# Altium schematic symbol library WR-TBL_Wire Protector.SchLib: 141 symbols (part 2 of 3)
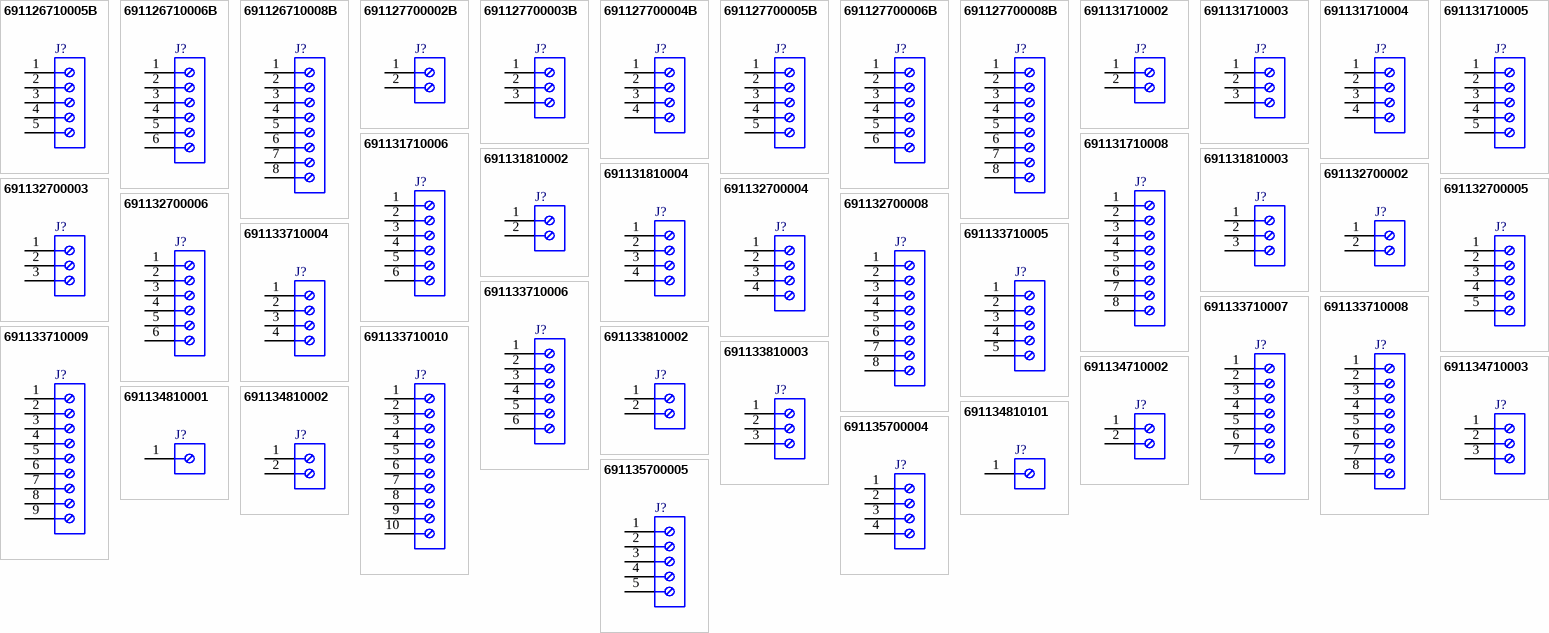
[diagram p4: symbols 691126710005B to 691135700005]

## 691132700008
designator J?  (value not drawn)
WR-TBL Series 1327 Vertical Entry, THT, pitch 5mm, 08p; Manufacturer: Wurth Elektronik; Modularity: No; Rated Current: 16A; Wire Section: 30 to 12 (AWG) 0.05 to 3.31 (mm^2); Working Voltage: 300V (AC); Manufacturer Part Number: 691132700008; Product Series: WR-TBL; ComponentLink1Description: Website Link; ComponentLink1URL: https://www.we-online.com; ComponentLink2Description: Datasheet Link; ComponentLink2URL: https://www.we-online.com/components/products/datasheet/691132700008; Mount: Through Hole; Operating Temperature Min: -30degC; Operating Temperature Max: 120degC; Packaging: Box; Application: Pressure Clamp Divisible; Number of Pins: 8; Number of Rows: 1; Orientation: Vertical; Lead Pitch: 5mm
footprint 691132700008
pins: 1, 2, 3, 4, 5, 6, 7, 8

## 691133710004
designator J?  (value not drawn)
WR-TBL Series 1337 Horizontal Cable Entry, THT, pitch 5mm, 04p; Manufacturer: Wurth Elektronik; Modularity: No; Rated Current: 18A; Wire Section: 30 to 12 (AWG) 0.2 to 2.5 (mm^2); Working Voltage: 300V (AC); Manufacturer Part Number: 691133710004; Product Series: WR-TBL; ComponentLink1Description: Website Link; ComponentLink1URL: https://www.we-online.com; ComponentLink2Description: Datasheet Link; ComponentLink2URL: https://www.we-online.com/components/products/datasheet/691133710004; Mount: Through Hole; Operating Temperature Min: -30degC; Operating Temperature Max: 120degC; Packaging: Box; Application: Pressure Clamp; Number of Pins: 4; Number of Rows: 1; Orientation: Horizontal; Lead Pitch: 5mm
footprint 691133710004
pins: 1, 2, 3, 4

## 691133710005
designator J?  (value not drawn)
WR-TBL Series 1337 Horizontal Cable Entry, THT, pitch 5mm, 05p; Manufacturer: Wurth Elektronik; Modularity: No; Rated Current: 18A; Wire Section: 30 to 12 (AWG) 0.2 to 2.5 (mm^2); Working Voltage: 300V (AC); Manufacturer Part Number: 691133710005; Product Series: WR-TBL; ComponentLink1Description: Website Link; ComponentLink1URL: https://www.we-online.com; ComponentLink2Description: Datasheet Link; ComponentLink2URL: https://www.we-online.com/components/products/datasheet/691133710005; Mount: Through Hole; Operating Temperature Min: -30degC; Operating Temperature Max: 120degC; Packaging: Box; Application: Pressure Clamp; Number of Pins: 5; Number of Rows: 1; Orientation: Horizontal; Lead Pitch: 5mm
footprint 691133710005
pins: 1, 2, 3, 4, 5

## 691133710006
designator J?  (value not drawn)
WR-TBL Series 1337 Horizontal Cable Entry, THT, pitch 5mm, 06p; Manufacturer: Wurth Elektronik; Modularity: No; Rated Current: 18A; Wire Section: 30 to 12 (AWG) 0.2 to 2.5 (mm^2); Working Voltage: 300V (AC); Manufacturer Part Number: 691133710006; Product Series: WR-TBL; ComponentLink1Description: Website Link; ComponentLink1URL: https://www.we-online.com; ComponentLink2Description: Datasheet Link; ComponentLink2URL: https://www.we-online.com/components/products/datasheet/691133710006; Mount: Through Hole; Operating Temperature Min: -30degC; Operating Temperature Max: 120degC; Packaging: Box; Application: Pressure Clamp; Number of Pins: 6; Number of Rows: 1; Orientation: Horizontal; Lead Pitch: 5mm
footprint 691133710006
pins: 1, 2, 3, 4, 5, 6

## 691133710007
designator J?  (value not drawn)
WR-TBL Series 1337 Horizontal Cable Entry, THT, pitch 5mm, 07p; Manufacturer: Wurth Elektronik; Modularity: No; Rated Current: 18A; Wire Section: 30 to 12 (AWG) 0.2 to 2.5 (mm^2); Working Voltage: 300V (AC); Manufacturer Part Number: 691133710007; Product Series: WR-TBL; ComponentLink1Description: Website Link; ComponentLink1URL: https://www.we-online.com; ComponentLink2Description: Datasheet Link; ComponentLink2URL: https://www.we-online.com/components/products/datasheet/691133710007; Mount: Through Hole; Operating Temperature Min: -30degC; Operating Temperature Max: 120degC; Packaging: Box; Application: Pressure Clamp; Number of Pins: 7; Number of Rows: 1; Orientation: Horizontal; Lead Pitch: 5mm
footprint 691133710007
pins: 1, 2, 3, 4, 5, 6, 7

## 691133710008
designator J?  (value not drawn)
WR-TBL Series 1337 Horizontal Cable Entry, THT, pitch 5mm, 08p; Manufacturer: Wurth Elektronik; Modularity: No; Rated Current: 18A; Wire Section: 30 to 12 (AWG) 0.2 to 2.5 (mm^2); Working Voltage: 300V (AC); Manufacturer Part Number: 691133710008; Product Series: WR-TBL; ComponentLink1Description: Website Link; ComponentLink1URL: https://www.we-online.com; ComponentLink2Description: Datasheet Link; ComponentLink2URL: https://www.we-online.com/components/products/datasheet/691133710008; Mount: Through Hole; Operating Temperature Min: -30degC; Operating Temperature Max: 120degC; Packaging: Box; Application: Pressure Clamp; Number of Pins: 8; Number of Rows: 1; Orientation: Horizontal; Lead Pitch: 5mm
footprint 691133710008
pins: 1, 2, 3, 4, 5, 6, 7, 8

## 691133710009
designator J?  (value not drawn)
WR-TBL Series 1337 Horizontal Cable Entry, THT, pitch 5mm, 09p; Manufacturer: Wurth Elektronik; Modularity: No; Rated Current: 18A; Wire Section: 30 to 12 (AWG) 0.2 to 2.5 (mm^2); Working Voltage: 300V (AC); Manufacturer Part Number: 691133710009; Product Series: WR-TBL; ComponentLink1Description: Website Link; ComponentLink1URL: https://www.we-online.com; ComponentLink2Description: Datasheet Link; ComponentLink2URL: https://www.we-online.com/components/products/datasheet/691133710009; Mount: Through Hole; Operating Temperature Min: -30degC; Operating Temperature Max: 120degC; Packaging: Box; Application: Pressure Clamp; Number of Pins: 9; Number of Rows: 1; Orientation: Horizontal; Lead Pitch: 5mm
footprint 691133710009
pins: 1, 2, 3, 4, 5, 6, 7, 8, 9

## 691133710010
designator J?  (value not drawn)
WR-TBL Series 1337 Horizontal Cable Entry, THT, pitch 5mm, 10p; Manufacturer: Wurth Elektronik; Modularity: No; Rated Current: 18A; Wire Section: 30 to 12 (AWG) 0.2 to 2.5 (mm^2); Working Voltage: 300V (AC); Manufacturer Part Number: 691133710010; Product Series: WR-TBL; ComponentLink1Description: Website Link; ComponentLink1URL: https://www.we-online.com; ComponentLink2Description: Datasheet Link; ComponentLink2URL: https://www.we-online.com/components/products/datasheet/691133710010; Mount: Through Hole; Operating Temperature Min: -30degC; Operating Temperature Max: 120degC; Packaging: Box; Application: Pressure Clamp; Number of Pins: 10; Number of Rows: 1; Orientation: Horizontal; Lead Pitch: 5mm
footprint 691133710010
pins: 1, 2, 3, 4, 5, 6, 7, 8, 9, 10

## 691133810002
designator J?  (value not drawn)
WR-TBL Series 1338 Horizontal Cable Entry, THT, pitch 10mm, 02p; Manufacturer: Wurth Elektronik; Modularity: No; Rated Current: 18A; Wire Section: 30 to 12 (AWG) 0.2 to 2.5 (mm^2); Working Voltage: 300V (AC); Manufacturer Part Number: 691133810002; Product Series: WR-TBL; ComponentLink1Description: Website Link; ComponentLink1URL: https://www.we-online.com; ComponentLink2Description: Datasheet Link; ComponentLink2URL: https://www.we-online.com/components/products/datasheet/691133810002; Mount: Through Hole; Operating Temperature Min: -30degC; Operating Temperature Max: 120degC; Packaging: Box; Application: Pressure Clamp; Number of Pins: 2; Number of Rows: 1; Orientation: Horizontal; Lead Pitch: 10mm
footprint 691133810002
pins: 1, 2

## 691133810003
designator J?  (value not drawn)
WR-TBL Series 1338 Horizontal Cable Entry, THT, pitch 10mm, 03p; Manufacturer: Wurth Elektronik; Modularity: No; Rated Current: 18A; Wire Section: 30 to 12 (AWG) 0.2 to 2.5 (mm^2); Working Voltage: 300V (AC); Manufacturer Part Number: 691133810003; Product Series: WR-TBL; ComponentLink1Description: Website Link; ComponentLink1URL: https://www.we-online.com; ComponentLink2Description: Datasheet Link; ComponentLink2URL: https://www.we-online.com/components/products/datasheet/691133810003; Mount: Through Hole; Operating Temperature Min: -30degC; Operating Temperature Max: 120degC; Packaging: Box; Application: Pressure Clamp; Number of Pins: 3; Number of Rows: 1; Orientation: Horizontal; Lead Pitch: 10mm
footprint 691133810003
pins: 1, 2, 3

## 691134710002
designator J?  (value not drawn)
WR-TBL Series 1347 Horizontal Cable Entry, THT, pitch 5mm, 02p; Manufacturer: Wurth Elektronik; Modularity: Yes; Rated Current: 16A; Working Voltage: 300V (AC); Manufacturer Part Number: 691134710002; Product Series: WR-TBL; ComponentLink1Description: Website Link; ComponentLink1URL: https://www.we-online.com; ComponentLink2Description: Datasheet Link; ComponentLink2URL: https://www.we-online.com/components/products/datasheet/691134710002; Mount: Through Hole; Operating Temperature Min: -30degC; Operating Temperature Max: 120degC; Packaging: Box; Application: Pressure Clamp; Number of Pins: 2; Number of Rows: 1; Orientation: Horizontal; Lead Pitch: 5mm
footprint 691134710002
pins: 1, 2

## 691134710003
designator J?  (value not drawn)
WR-TBL Series 1347 Horizontal Cable Entry, THT, pitch 5mm, 03p; Manufacturer: Wurth Elektronik; Modularity: Yes; Rated Current: 16A; Working Voltage: 300V (AC); Manufacturer Part Number: 691134710003; Product Series: WR-TBL; ComponentLink1Description: Website Link; ComponentLink1URL: https://www.we-online.com; ComponentLink2Description: Datasheet Link; ComponentLink2URL: https://www.we-online.com/components/products/datasheet/691134710003; Mount: Through Hole; Operating Temperature Min: -30degC; Operating Temperature Max: 120degC; Packaging: Box; Application: Pressure Clamp; Number of Pins: 3; Number of Rows: 1; Orientation: Horizontal; Lead Pitch: 5mm
footprint 691134710003
pins: 1, 2, 3

## 691134810001
designator J?  (value not drawn)
WR-TBL Series 1348 Horizontal Cable Entry, THT, pitch 10mm, 01p; Manufacturer: Wurth Elektronik; Modularity: Yes; Rated Current: 16A; Working Voltage: 300V (AC); Manufacturer Part Number: 691134810001; Product Series: WR-TBL; ComponentLink1Description: Website Link; ComponentLink1URL: https://www.we-online.com; ComponentLink2Description: Datasheet Link; ComponentLink2URL: https://www.we-online.com/components/products/datasheet/691134810001; Mount: Through Hole; Operating Temperature Min: -30degC; Operating Temperature Max: 120degC; Packaging: Box; Application: Pressure Clamp; Number of Pins: 1; Number of Rows: 1; Orientation: Horizontal; Lead Pitch: 10mm
footprint 691134810001
pins: 1

## 691134810002
designator J?  (value not drawn)
WR-TBL Series 1348 Horizontal Cable Entry, THT, pitch 10mm, 02p; Manufacturer: Wurth Elektronik; Modularity: Yes; Rated Current: 16A; Working Voltage: 300V (AC); Manufacturer Part Number: 691134810002; Product Series: WR-TBL; ComponentLink1Description: Website Link; ComponentLink1URL: https://www.we-online.com; ComponentLink2Description: Datasheet Link; ComponentLink2URL: https://www.we-online.com/components/products/datasheet/691134810002; Mount: Through Hole; Operating Temperature Min: -30degC; Operating Temperature Max: 120degC; Packaging: Box; Application: Pressure Clamp; Number of Pins: 2; Number of Rows: 1; Orientation: Horizontal; Lead Pitch: 10mm
footprint 691134810002
pins: 1, 2

## 691134810101
designator J?  (value not drawn)
WR-TBL Series 1348 Horizontal Cable Entry, THT, pitch 10mm, 01p; Manufacturer: Wurth Elektronik; Modularity: Yes; Rated Current: 16A; Working Voltage: 300V (AC); Manufacturer Part Number: 691134810101; Product Series: WR-TBL; ComponentLink1Description: Website Link; ComponentLink1URL: https://www.we-online.com; ComponentLink2Description: Datasheet Link; ComponentLink2URL: https://www.we-online.com/components/products/datasheet/691134810101; Mount: Through Hole; Operating Temperature Min: -30degC; Operating Temperature Max: 120degC; Packaging: Box; Application: Pressure Clamp; Number of Pins: 1; Number of Rows: 1; Orientation: Horizontal; Lead Pitch: 10mm
footprint 691134810101
pins: 1

## 691135700004
designator J?  (value not drawn)
WR-TBL Series 1357 Vertical Cable Entry, THT, pitch 5mm, 04p; Manufacturer: Wurth Elektronik; Modularity: No; Rated Current: 14A; Working Voltage: 300V (AC); Manufacturer Part Number: 691135700004; Product Series: WR-TBL; ComponentLink1Description: Website Link; ComponentLink1URL: https://www.we-online.com; ComponentLink2Description: Datasheet Link; ComponentLink2URL: https://www.we-online.com/components/products/datasheet/691135700004; Mount: Through Hole; Operating Temperature Min: -30degC; Operating Temperature Max: 120degC; Packaging: Box; Application: Pressure Clamp; Number of Pins: 4; Number of Rows: 1; Orientation: Vertical; Lead Pitch: 5mm
footprint 691135700004
pins: 1, 2, 3, 4

## 691135700005
designator J?  (value not drawn)
WR-TBL Series 1357 Vertical Cable Entry, THT, pitch 5mm, 05p; Manufacturer: Wurth Elektronik; Modularity: No; Rated Current: 14A; Working Voltage: 300V (AC); Manufacturer Part Number: 691135700005; Product Series: WR-TBL; ComponentLink1Description: Website Link; ComponentLink1URL: https://www.we-online.com; ComponentLink2Description: Datasheet Link; ComponentLink2URL: https://www.we-online.com/components/products/datasheet/691135700005; Mount: Through Hole; Operating Temperature Min: -30degC; Operating Temperature Max: 120degC; Packaging: Box; Application: Pressure Clamp; Number of Pins: 5; Number of Rows: 1; Orientation: Vertical; Lead Pitch: 5mm
footprint 691135700005
pins: 1, 2, 3, 4, 5

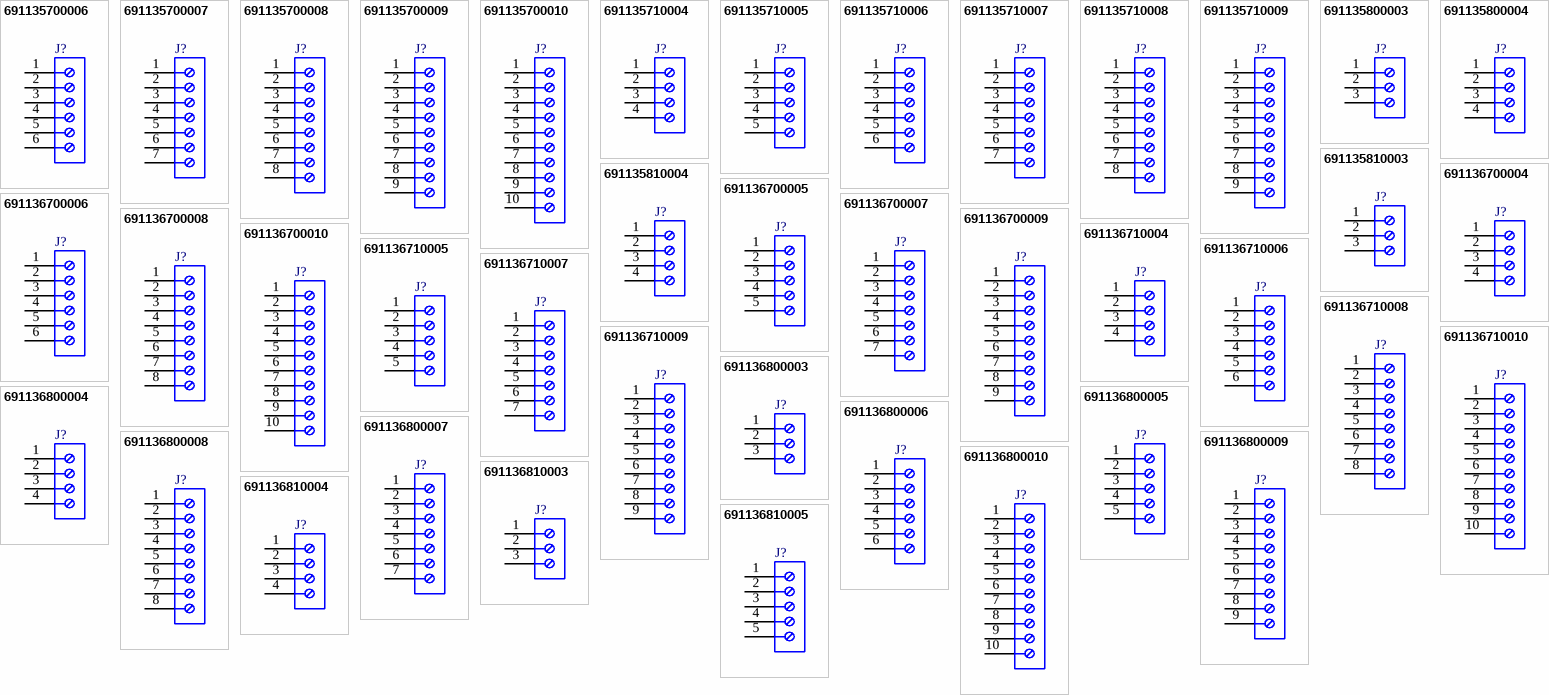
[diagram p2: symbols 691135700006 to 691136810005]

## 691135700006
designator J?  (value not drawn)
WR-TBL Series 1357 Vertical Cable Entry, THT, pitch 5mm, 06p; Manufacturer: Wurth Elektronik; Modularity: No; Rated Current: 14A; Working Voltage: 300V (AC); Manufacturer Part Number: 691135700006; Product Series: WR-TBL; ComponentLink1Description: Website Link; ComponentLink1URL: https://www.we-online.com; ComponentLink2Description: Datasheet Link; ComponentLink2URL: https://www.we-online.com/components/products/datasheet/691135700006; Mount: Through Hole; Operating Temperature Min: -30degC; Operating Temperature Max: 120degC; Packaging: Box; Application: Pressure Clamp; Number of Pins: 6; Number of Rows: 1; Orientation: Vertical; Lead Pitch: 5mm
footprint 691135700006
pins: 1, 2, 3, 4, 5, 6

## 691135700007
designator J?  (value not drawn)
WR-TBL Series 1357 Vertical Cable Entry, THT, pitch 5mm, 07p; Manufacturer: Wurth Elektronik; Modularity: No; Rated Current: 14A; Working Voltage: 300V (AC); Manufacturer Part Number: 691135700007; Product Series: WR-TBL; ComponentLink1Description: Website Link; ComponentLink1URL: https://www.we-online.com; ComponentLink2Description: Datasheet Link; ComponentLink2URL: https://www.we-online.com/components/products/datasheet/691135700007; Mount: Through Hole; Operating Temperature Min: -30degC; Operating Temperature Max: 120degC; Packaging: Box; Application: Pressure Clamp; Number of Pins: 7; Number of Rows: 1; Orientation: Vertical; Lead Pitch: 5mm
footprint 691135700007
pins: 1, 2, 3, 4, 5, 6, 7

## 691135700008
designator J?  (value not drawn)
WR-TBL Series 1357 Vertical Cable Entry, THT, pitch 5mm, 08p; Manufacturer: Wurth Elektronik; Modularity: No; Rated Current: 14A; Working Voltage: 300V (AC); Manufacturer Part Number: 691135700008; Product Series: WR-TBL; ComponentLink1Description: Website Link; ComponentLink1URL: https://www.we-online.com; ComponentLink2Description: Datasheet Link; ComponentLink2URL: https://www.we-online.com/components/products/datasheet/691135700008; Mount: Through Hole; Operating Temperature Min: -30degC; Operating Temperature Max: 120degC; Packaging: Box; Application: Pressure Clamp; Number of Pins: 8; Number of Rows: 1; Orientation: Vertical; Lead Pitch: 5mm
footprint 691135700008
pins: 1, 2, 3, 4, 5, 6, 7, 8

## 691135700009
designator J?  (value not drawn)
WR-TBL Series 1357 Vertical Cable Entry, THT, pitch 5mm, 09p; Manufacturer: Wurth Elektronik; Modularity: No; Rated Current: 14A; Working Voltage: 300V (AC); Manufacturer Part Number: 691135700009; Product Series: WR-TBL; ComponentLink1Description: Website Link; ComponentLink1URL: https://www.we-online.com; ComponentLink2Description: Datasheet Link; ComponentLink2URL: https://www.we-online.com/components/products/datasheet/691135700009; Mount: Through Hole; Operating Temperature Min: -30degC; Operating Temperature Max: 120degC; Packaging: Box; Application: Pressure Clamp; Number of Pins: 9; Number of Rows: 1; Orientation: Vertical; Lead Pitch: 5mm
footprint 691135700009
pins: 1, 2, 3, 4, 5, 6, 7, 8, 9

## 691135700010
designator J?  (value not drawn)
WR-TBL Series 1357 Vertical Cable Entry, THT, pitch 5mm, 10p; Manufacturer: Wurth Elektronik; Modularity: No; Rated Current: 14A; Working Voltage: 300V (AC); Manufacturer Part Number: 691135700010; Product Series: WR-TBL; ComponentLink1Description: Website Link; ComponentLink1URL: https://www.we-online.com; ComponentLink2Description: Datasheet Link; ComponentLink2URL: https://www.we-online.com/components/products/datasheet/691135700010; Mount: Through Hole; Operating Temperature Min: -30degC; Operating Temperature Max: 120degC; Packaging: Box; Application: Pressure Clamp; Number of Pins: 10; Number of Rows: 1; Orientation: Vertical; Lead Pitch: 5mm
footprint 691135700010
pins: 1, 2, 3, 4, 5, 6, 7, 8, 9, 10

## 691135710004
designator J?  (value not drawn)
WR-TBL Series 1357 Horizontal Cable Entry, THT, pitch 5mm, 04p; Manufacturer: Wurth Elektronik; Modularity: No; Rated Current: 14A; Working Voltage: 300V (AC); Manufacturer Part Number: 691135710004; Product Series: WR-TBL; ComponentLink1Description: Website Link; ComponentLink1URL: https://www.we-online.com; ComponentLink2Description: Datasheet Link; ComponentLink2URL: https://www.we-online.com/components/products/datasheet/691135710004; Mount: Through Hole; Operating Temperature Min: -30degC; Operating Temperature Max: 120degC; Packaging: Box; Application: Pressure Clamp; Number of Pins: 4; Number of Rows: 1; Orientation: Horizontal; Lead Pitch: 5mm
footprint 691135710004
pins: 1, 2, 3, 4

## 691135710005
designator J?  (value not drawn)
WR-TBL Series 1357 Horizontal Cable Entry, THT, pitch 5mm, 05p; Manufacturer: Wurth Elektronik; Modularity: No; Rated Current: 14A; Working Voltage: 300V (AC); Manufacturer Part Number: 691135710005; Product Series: WR-TBL; ComponentLink1Description: Website Link; ComponentLink1URL: https://www.we-online.com; ComponentLink2Description: Datasheet Link; ComponentLink2URL: https://www.we-online.com/components/products/datasheet/691135710005; Mount: Through Hole; Operating Temperature Min: -30degC; Operating Temperature Max: 120degC; Packaging: Box; Application: Pressure Clamp; Number of Pins: 5; Number of Rows: 1; Orientation: Horizontal; Lead Pitch: 5mm
footprint 691135710005
pins: 1, 2, 3, 4, 5

## 691135710006
designator J?  (value not drawn)
WR-TBL Series 1357 Horizontal Cable Entry, THT, pitch 5mm, 06p; Manufacturer: Wurth Elektronik; Modularity: No; Rated Current: 14A; Working Voltage: 300V (AC); Manufacturer Part Number: 691135710006; Product Series: WR-TBL; ComponentLink1Description: Website Link; ComponentLink1URL: https://www.we-online.com; ComponentLink2Description: Datasheet Link; ComponentLink2URL: https://www.we-online.com/components/products/datasheet/691135710006; Mount: Through Hole; Operating Temperature Min: -30degC; Operating Temperature Max: 120degC; Packaging: Box; Application: Pressure Clamp; Number of Pins: 6; Number of Rows: 1; Orientation: Horizontal; Lead Pitch: 5mm
footprint 691135710006
pins: 1, 2, 3, 4, 5, 6

## 691135710007
designator J?  (value not drawn)
WR-TBL Series 1357 Horizontal Cable Entry, THT, pitch 5mm, 07p; Manufacturer: Wurth Elektronik; Modularity: No; Rated Current: 14A; Working Voltage: 300V (AC); Manufacturer Part Number: 691135710007; Product Series: WR-TBL; ComponentLink1Description: Website Link; ComponentLink1URL: https://www.we-online.com; ComponentLink2Description: Datasheet Link; ComponentLink2URL: https://www.we-online.com/components/products/datasheet/691135710007; Mount: Through Hole; Operating Temperature Min: -30degC; Operating Temperature Max: 120degC; Packaging: Box; Application: Pressure Clamp; Number of Pins: 7; Number of Rows: 1; Orientation: Horizontal; Lead Pitch: 5mm
footprint 691135710007
pins: 1, 2, 3, 4, 5, 6, 7

## 691135710008
designator J?  (value not drawn)
WR-TBL Series 1357 Horizontal Cable Entry, THT, pitch 5mm, 08p; Manufacturer: Wurth Elektronik; Modularity: No; Rated Current: 14A; Working Voltage: 300V (AC); Manufacturer Part Number: 691135710008; Product Series: WR-TBL; ComponentLink1Description: Website Link; ComponentLink1URL: https://www.we-online.com; ComponentLink2Description: Datasheet Link; ComponentLink2URL: https://www.we-online.com/components/products/datasheet/691135710008; Mount: Through Hole; Operating Temperature Min: -30degC; Operating Temperature Max: 120degC; Packaging: Box; Application: Pressure Clamp; Number of Pins: 8; Number of Rows: 1; Orientation: Horizontal; Lead Pitch: 5mm
footprint 691135710008
pins: 1, 2, 3, 4, 5, 6, 7, 8

## 691135710009
designator J?  (value not drawn)
WR-TBL Series 1357 Horizontal Cable Entry, THT, pitch 5mm, 09p; Manufacturer: Wurth Elektronik; Modularity: No; Rated Current: 14A; Working Voltage: 300V (AC); Manufacturer Part Number: 691135710009; Product Series: WR-TBL; ComponentLink1Description: Website Link; ComponentLink1URL: https://www.we-online.com; ComponentLink2Description: Datasheet Link; ComponentLink2URL: https://www.we-online.com/components/products/datasheet/691135710009; Mount: Through Hole; Operating Temperature Min: -30degC; Operating Temperature Max: 120degC; Packaging: Box; Application: Pressure Clamp; Number of Pins: 9; Number of Rows: 1; Orientation: Horizontal; Lead Pitch: 5mm
footprint 691135710009
pins: 1, 2, 3, 4, 5, 6, 7, 8, 9

## 691135800003
designator J?  (value not drawn)
WR-TBL Series 1358 Vertical Entry Glow Wire, THT, pitch 10mm, 03p; Manufacturer: Wurth Elektronik; Modularity: No; Rated Current: 14A; Working Voltage: 300V (AC); Manufacturer Part Number: 691135800003; Product Series: WR-TBL; ComponentLink1Description: Website Link; ComponentLink1URL: https://www.we-online.com; ComponentLink2Description: Datasheet Link; ComponentLink2URL: https://www.we-online.com/components/products/datasheet/691135800003; Mount: Through Hole; Operating Temperature Min: -30degC; Operating Temperature Max: 120degC; Packaging: Box; Application: Pressure Clamp; Number of Pins: 3; Number of Rows: 1; Orientation: Vertical; Lead Pitch: 10mm
footprint 691135800003
pins: 1, 2, 3

## 691135800004
designator J?  (value not drawn)
WR-TBL Series 1358 Vertical Entry Glow Wire, THT, pitch 10mm, 04p; Manufacturer: Wurth Elektronik; Modularity: No; Rated Current: 14A; Working Voltage: 300V (AC); Manufacturer Part Number: 691135800004; Product Series: WR-TBL; ComponentLink1Description: Website Link; ComponentLink1URL: https://www.we-online.com; ComponentLink2Description: Datasheet Link; ComponentLink2URL: https://www.we-online.com/components/products/datasheet/691135800004; Mount: Through Hole; Operating Temperature Min: -30degC; Operating Temperature Max: 120degC; Packaging: Box; Application: Pressure Clamp; Number of Pins: 4; Number of Rows: 1; Orientation: Vertical; Lead Pitch: 10mm
footprint 691135800004
pins: 1, 2, 3, 4

## 691135810003
designator J?  (value not drawn)
WR-TBL Series 1358 Horizontal Entry Glow Wire, THT, pitch 10mm, 03p; Manufacturer: Wurth Elektronik; Modularity: No; Rated Current: 14A; Working Voltage: 300V (AC); Manufacturer Part Number: 691135810003; Product Series: WR-TBL; ComponentLink1Description: Website Link; ComponentLink1URL: https://www.we-online.com; ComponentLink2Description: Datasheet Link; ComponentLink2URL: https://www.we-online.com/components/products/datasheet/691135810003; Mount: Through Hole; Operating Temperature Min: -30degC; Operating Temperature Max: 120degC; Packaging: Box; Application: Pressure Clamp; Number of Pins: 3; Number of Rows: 1; Orientation: Horizontal; Lead Pitch: 10mm
footprint 691135810003
pins: 1, 2, 3

## 691135810004
designator J?  (value not drawn)
WR-TBL Series 1358 Horizontal Entry Glow Wire, THT, pitch 10mm, 04p; Manufacturer: Wurth Elektronik; Modularity: No; Rated Current: 14A; Working Voltage: 300V (AC); Manufacturer Part Number: 691135810004; Product Series: WR-TBL; ComponentLink1Description: Website Link; ComponentLink1URL: https://www.we-online.com; ComponentLink2Description: Datasheet Link; ComponentLink2URL: https://www.we-online.com/components/products/datasheet/691135810004; Mount: Through Hole; Operating Temperature Min: -30degC; Operating Temperature Max: 120degC; Packaging: Box; Application: Pressure Clamp; Number of Pins: 4; Number of Rows: 1; Orientation: Horizontal; Lead Pitch: 10mm
footprint 691135810004
pins: 1, 2, 3, 4

## 691136700004
designator J?  (value not drawn)
WR-TBL Series 1367 Vertical Cable Entry, THT, pitch 5mm, 04p; Manufacturer: Wurth Elektronik; Modularity: No; Rated Current: 16A; Working Voltage: 300V (AC); Manufacturer Part Number: 691136700004; Product Series: WR-TBL; ComponentLink1Description: Website Link; ComponentLink1URL: https://www.we-online.com; ComponentLink2Description: Datasheet Link; ComponentLink2URL: https://www.we-online.com/components/products/datasheet/691136700004; Mount: Through Hole; Operating Temperature Min: -30degC; Operating Temperature Max: 120degC; Packaging: Box; Application: Pressure Clamp; Number of Pins: 4; Number of Rows: 1; Orientation: Vertical; Lead Pitch: 5mm
footprint 691136700004
pins: 1, 2, 3, 4

## 691136700005
designator J?  (value not drawn)
WR-TBL Series 1367 Vertical Cable Entry, THT, pitch 5mm, 05p; Manufacturer: Wurth Elektronik; Modularity: No; Rated Current: 16A; Working Voltage: 300V (AC); Manufacturer Part Number: 691136700005; Product Series: WR-TBL; ComponentLink1Description: Website Link; ComponentLink1URL: https://www.we-online.com; ComponentLink2Description: Datasheet Link; ComponentLink2URL: https://www.we-online.com/components/products/datasheet/691136700005; Mount: Through Hole; Operating Temperature Min: -30degC; Operating Temperature Max: 120degC; Packaging: Box; Application: Pressure Clamp; Number of Pins: 5; Number of Rows: 1; Orientation: Vertical; Lead Pitch: 5mm
footprint 691136700005
pins: 1, 2, 3, 4, 5

## 691136700006
designator J?  (value not drawn)
WR-TBL Series 1367 Vertical Cable Entry, THT, pitch 5mm, 06p; Manufacturer: Wurth Elektronik; Modularity: No; Rated Current: 16A; Working Voltage: 300V (AC); Manufacturer Part Number: 691136700006; Product Series: WR-TBL; ComponentLink1Description: Website Link; ComponentLink1URL: https://www.we-online.com; ComponentLink2Description: Datasheet Link; ComponentLink2URL: https://www.we-online.com/components/products/datasheet/691136700006; Mount: Through Hole; Operating Temperature Min: -30degC; Operating Temperature Max: 120degC; Packaging: Box; Application: Pressure Clamp; Number of Pins: 6; Number of Rows: 1; Orientation: Vertical; Lead Pitch: 5mm
footprint 691136700006
pins: 1, 2, 3, 4, 5, 6

## 691136700007
designator J?  (value not drawn)
WR-TBL Series 1367 Vertical Cable Entry, THT, pitch 5mm, 07p; Manufacturer: Wurth Elektronik; Modularity: No; Rated Current: 16A; Working Voltage: 300V (AC); Manufacturer Part Number: 691136700007; Product Series: WR-TBL; ComponentLink1Description: Website Link; ComponentLink1URL: https://www.we-online.com; ComponentLink2Description: Datasheet Link; ComponentLink2URL: https://www.we-online.com/components/products/datasheet/691136700007; Mount: Through Hole; Operating Temperature Min: -30degC; Operating Temperature Max: 120degC; Packaging: Box; Application: Pressure Clamp; Number of Pins: 7; Number of Rows: 1; Orientation: Vertical; Lead Pitch: 5mm
footprint 691136700007
pins: 1, 2, 3, 4, 5, 6, 7

## 691136700008
designator J?  (value not drawn)
WR-TBL Series 1367 Vertical Cable Entry, THT, pitch 5mm, 08p; Manufacturer: Wurth Elektronik; Modularity: No; Rated Current: 16A; Working Voltage: 300V (AC); Manufacturer Part Number: 691136700008; Product Series: WR-TBL; ComponentLink1Description: Website Link; ComponentLink1URL: https://www.we-online.com; ComponentLink2Description: Datasheet Link; ComponentLink2URL: https://www.we-online.com/components/products/datasheet/691136700008; Mount: Through Hole; Operating Temperature Min: -30degC; Operating Temperature Max: 120degC; Packaging: Box; Application: Pressure Clamp; Number of Pins: 8; Number of Rows: 1; Orientation: Vertical; Lead Pitch: 5mm
footprint 691136700008
pins: 1, 2, 3, 4, 5, 6, 7, 8

## 691136700009
designator J?  (value not drawn)
WR-TBL Series 1367 Vertical Cable Entry, THT, pitch 5mm, 09p; Manufacturer: Wurth Elektronik; Modularity: No; Rated Current: 16A; Working Voltage: 300V (AC); Manufacturer Part Number: 691136700009; Product Series: WR-TBL; ComponentLink1Description: Website Link; ComponentLink1URL: https://www.we-online.com; ComponentLink2Description: Datasheet Link; ComponentLink2URL: https://www.we-online.com/components/products/datasheet/691136700009; Mount: Through Hole; Operating Temperature Min: -30degC; Operating Temperature Max: 120degC; Packaging: Box; Application: Pressure Clamp; Number of Pins: 9; Number of Rows: 1; Orientation: Vertical; Lead Pitch: 5mm
footprint 691136700009
pins: 1, 2, 3, 4, 5, 6, 7, 8, 9

## 691136700010
designator J?  (value not drawn)
WR-TBL Series 1367 Vertical Cable Entry, THT, pitch 5mm, 10p; Manufacturer: Wurth Elektronik; Modularity: No; Rated Current: 16A; Working Voltage: 300V (AC); Manufacturer Part Number: 691136700010; Product Series: WR-TBL; ComponentLink1Description: Website Link; ComponentLink1URL: https://www.we-online.com; ComponentLink2Description: Datasheet Link; ComponentLink2URL: https://www.we-online.com/components/products/datasheet/691136700010; Mount: Through Hole; Operating Temperature Min: -30degC; Operating Temperature Max: 120degC; Packaging: Box; Application: Pressure Clamp; Number of Pins: 10; Number of Rows: 1; Orientation: Vertical; Lead Pitch: 5mm
footprint 691136700010
pins: 1, 2, 3, 4, 5, 6, 7, 8, 9, 10

## 691136710004
designator J?  (value not drawn)
WR-TBL Series 1347 Horizontal Cable Entry, THT, pitch 5mm, 04p; Manufacturer: Wurth Elektronik; Modularity: No; Rated Current: 16A; Working Voltage: 300V (AC); Manufacturer Part Number: 691136710004; Product Series: WR-TBL; ComponentLink1Description: Website Link; ComponentLink1URL: https://www.we-online.com; ComponentLink2Description: Datasheet Link; ComponentLink2URL: https://www.we-online.com/components/products/datasheet/691136710004; Mount: Through Hole; Operating Temperature Min: -30degC; Operating Temperature Max: 120degC; Packaging: Box; Application: Pressure Clamp; Number of Pins: 4; Number of Rows: 1; Orientation: Horizontal; Lead Pitch: 5mm
footprint 691136710004
pins: 1, 2, 3, 4

## 691136710005
designator J?  (value not drawn)
WR-TBL Series 1347 Horizontal Cable Entry, THT, pitch 5mm, 05p; Manufacturer: Wurth Elektronik; Modularity: No; Rated Current: 16A; Working Voltage: 300V (AC); Manufacturer Part Number: 691136710005; Product Series: WR-TBL; ComponentLink1Description: Website Link; ComponentLink1URL: https://www.we-online.com; ComponentLink2Description: Datasheet Link; ComponentLink2URL: https://www.we-online.com/components/products/datasheet/691136710005; Mount: Through Hole; Operating Temperature Min: -30degC; Operating Temperature Max: 120degC; Packaging: Box; Application: Pressure Clamp; Number of Pins: 5; Number of Rows: 1; Orientation: Horizontal; Lead Pitch: 5mm
footprint 691136710005
pins: 1, 2, 3, 4, 5

## 691136710006
designator J?  (value not drawn)
WR-TBL Series 1347 Horizontal Cable Entry, THT, pitch 5mm, 06p; Manufacturer: Wurth Elektronik; Modularity: No; Rated Current: 16A; Working Voltage: 300V (AC); Manufacturer Part Number: 691136710006; Product Series: WR-TBL; ComponentLink1Description: Website Link; ComponentLink1URL: https://www.we-online.com; ComponentLink2Description: Datasheet Link; ComponentLink2URL: https://www.we-online.com/components/products/datasheet/691136710006; Mount: Through Hole; Operating Temperature Min: -30degC; Operating Temperature Max: 120degC; Packaging: Box; Application: Pressure Clamp; Number of Pins: 6; Number of Rows: 1; Orientation: Horizontal; Lead Pitch: 5mm
footprint 691136710006
pins: 1, 2, 3, 4, 5, 6

## 691136710007
designator J?  (value not drawn)
WR-TBL Series 1347 Horizontal Cable Entry, THT, pitch 5mm, 07p; Manufacturer: Wurth Elektronik; Modularity: No; Rated Current: 16A; Working Voltage: 300V (AC); Manufacturer Part Number: 691136710007; Product Series: WR-TBL; ComponentLink1Description: Website Link; ComponentLink1URL: https://www.we-online.com; ComponentLink2Description: Datasheet Link; ComponentLink2URL: https://www.we-online.com/components/products/datasheet/691136710007; Mount: Through Hole; Operating Temperature Min: -30degC; Operating Temperature Max: 120degC; Packaging: Box; Application: Pressure Clamp; Number of Pins: 7; Number of Rows: 1; Orientation: Horizontal; Lead Pitch: 5mm
footprint 691136710007
pins: 1, 2, 3, 4, 5, 6, 7

## 691136710008
designator J?  (value not drawn)
WR-TBL Series 1347 Horizontal Cable Entry, THT, pitch 5mm, 08p; Manufacturer: Wurth Elektronik; Modularity: No; Rated Current: 16A; Working Voltage: 300V (AC); Manufacturer Part Number: 691136710008; Product Series: WR-TBL; ComponentLink1Description: Website Link; ComponentLink1URL: https://www.we-online.com; ComponentLink2Description: Datasheet Link; ComponentLink2URL: https://www.we-online.com/components/products/datasheet/691136710008; Mount: Through Hole; Operating Temperature Min: -30degC; Operating Temperature Max: 120degC; Packaging: Box; Application: Pressure Clamp; Number of Pins: 8; Number of Rows: 1; Orientation: Horizontal; Lead Pitch: 5mm
footprint 691136710008
pins: 1, 2, 3, 4, 5, 6, 7, 8

## 691136710009
designator J?  (value not drawn)
WR-TBL Series 1347 Horizontal Cable Entry, THT, pitch 5mm, 09p; Manufacturer: Wurth Elektronik; Modularity: No; Rated Current: 16A; Working Voltage: 300V (AC); Manufacturer Part Number: 691136710009; Product Series: WR-TBL; ComponentLink1Description: Website Link; ComponentLink1URL: https://www.we-online.com; ComponentLink2Description: Datasheet Link; ComponentLink2URL: https://www.we-online.com/components/products/datasheet/691136710009; Mount: Through Hole; Operating Temperature Min: -30degC; Operating Temperature Max: 120degC; Packaging: Box; Application: Pressure Clamp; Number of Pins: 9; Number of Rows: 1; Orientation: Horizontal; Lead Pitch: 5mm
footprint 691136710009
pins: 1, 2, 3, 4, 5, 6, 7, 8, 9

## 691136710010
designator J?  (value not drawn)
WR-TBL Series 1347 Horizontal Cable Entry, THT, pitch 5mm, 10p; Manufacturer: Wurth Elektronik; Modularity: No; Rated Current: 16A; Working Voltage: 300V (AC); Manufacturer Part Number: 691136710010; Product Series: WR-TBL; ComponentLink1Description: Website Link; ComponentLink1URL: https://www.we-online.com; ComponentLink2Description: Datasheet Link; ComponentLink2URL: https://www.we-online.com/components/products/datasheet/691136710010; Mount: Through Hole; Operating Temperature Min: -30degC; Operating Temperature Max: 120degC; Packaging: Box; Application: Pressure Clamp; Number of Pins: 10; Number of Rows: 1; Orientation: Horizontal; Lead Pitch: 5mm
footprint 691136710010
pins: 1, 2, 3, 4, 5, 6, 7, 8, 9, 10

## 691136800003
designator J?  (value not drawn)
WR-TBL Series 1368 Vertical Cable Entry, THT, pitch 10mm, 03p; Manufacturer: Wurth Elektronik; Modularity: No; Rated Current: 16A; Working Voltage: 300V (AC); Manufacturer Part Number: 691136800003; Product Series: WR-TBL; ComponentLink1Description: Website Link; ComponentLink1URL: https://www.we-online.com; ComponentLink2Description: Datasheet Link; ComponentLink2URL: https://www.we-online.com/components/products/datasheet/691136800003; Mount: Through Hole; Operating Temperature Min: -30degC; Operating Temperature Max: 120degC; Packaging: Box; Application: Pressure Clamp; Number of Pins: 3; Number of Rows: 1; Orientation: Vertical; Lead Pitch: 10mm
footprint 691136800003
pins: 1, 2, 3

## 691136800004
designator J?  (value not drawn)
WR-TBL Series 1368 Vertical Cable Entry, THT, pitch 10mm, 04p; Manufacturer: Wurth Elektronik; Modularity: No; Rated Current: 16A; Working Voltage: 300V (AC); Manufacturer Part Number: 691136800004; Product Series: WR-TBL; ComponentLink1Description: Website Link; ComponentLink1URL: https://www.we-online.com; ComponentLink2Description: Datasheet Link; ComponentLink2URL: https://www.we-online.com/components/products/datasheet/691136800004; Mount: Through Hole; Operating Temperature Min: -30degC; Operating Temperature Max: 120degC; Packaging: Box; Application: Pressure Clamp; Number of Pins: 4; Number of Rows: 1; Orientation: Vertical; Lead Pitch: 10mm
footprint 691136800004
pins: 1, 2, 3, 4

## 691136800005
designator J?  (value not drawn)
WR-TBL Series 1368 Vertical Cable Entry, THT, pitch 10mm, 05p; Manufacturer: Wurth Elektronik; Modularity: No; Rated Current: 16A; Working Voltage: 300V (AC); Manufacturer Part Number: 691136800005; Product Series: WR-TBL; ComponentLink1Description: Website Link; ComponentLink1URL: https://www.we-online.com; ComponentLink2Description: Datasheet Link; ComponentLink2URL: https://www.we-online.com/components/products/datasheet/691136800005; Mount: Through Hole; Operating Temperature Min: -30degC; Operating Temperature Max: 120degC; Packaging: Box; Application: Pressure Clamp; Number of Pins: 5; Number of Rows: 1; Orientation: Vertical; Lead Pitch: 10mm
footprint 691136800005
pins: 1, 2, 3, 4, 5

## 691136800006
designator J?  (value not drawn)
WR-TBL Series 1368 Vertical Cable Entry, THT, pitch 10mm, 06p; Manufacturer: Wurth Elektronik; Modularity: No; Rated Current: 16A; Working Voltage: 300V (AC); Manufacturer Part Number: 691136800006; Product Series: WR-TBL; ComponentLink1Description: Website Link; ComponentLink1URL: https://www.we-online.com; ComponentLink2Description: Datasheet Link; ComponentLink2URL: https://www.we-online.com/components/products/datasheet/691136800006; Mount: Through Hole; Operating Temperature Min: -30degC; Operating Temperature Max: 120degC; Packaging: Box; Application: Pressure Clamp; Number of Pins: 6; Number of Rows: 1; Orientation: Vertical; Lead Pitch: 10mm
footprint 691136800006
pins: 1, 2, 3, 4, 5, 6

## 691136800007
designator J?  (value not drawn)
WR-TBL Series 1368 Vertical Cable Entry, THT, pitch 10mm, 07p; Manufacturer: Wurth Elektronik; Modularity: No; Rated Current: 16A; Working Voltage: 300V (AC); Manufacturer Part Number: 691136800007; Product Series: WR-TBL; ComponentLink1Description: Website Link; ComponentLink1URL: https://www.we-online.com; ComponentLink2Description: Datasheet Link; ComponentLink2URL: https://www.we-online.com/components/products/datasheet/691136800007; Mount: Through Hole; Operating Temperature Min: -30degC; Operating Temperature Max: 120degC; Packaging: Box; Application: Pressure Clamp; Number of Pins: 7; Number of Rows: 1; Orientation: Vertical; Lead Pitch: 10mm
footprint 691136800007
pins: 1, 2, 3, 4, 5, 6, 7

## 691136800008
designator J?  (value not drawn)
WR-TBL Series 1368 Vertical Cable Entry, THT, pitch 10mm, 08p; Manufacturer: Wurth Elektronik; Modularity: No; Rated Current: 16A; Working Voltage: 300V (AC); Manufacturer Part Number: 691136800008; Product Series: WR-TBL; ComponentLink1Description: Website Link; ComponentLink1URL: https://www.we-online.com; ComponentLink2Description: Datasheet Link; ComponentLink2URL: https://www.we-online.com/components/products/datasheet/691136800008; Mount: Through Hole; Operating Temperature Min: -30degC; Operating Temperature Max: 120degC; Packaging: Box; Application: Pressure Clamp; Number of Pins: 8; Number of Rows: 1; Orientation: Vertical; Lead Pitch: 10mm
footprint 691136800008
pins: 1, 2, 3, 4, 5, 6, 7, 8

## 691136800009
designator J?  (value not drawn)
WR-TBL Series 1368 Vertical Cable Entry, THT, pitch 10mm, 09p; Manufacturer: Wurth Elektronik; Modularity: No; Rated Current: 16A; Working Voltage: 300V (AC); Manufacturer Part Number: 691136800009; Product Series: WR-TBL; ComponentLink1Description: Website Link; ComponentLink1URL: https://www.we-online.com; ComponentLink2Description: Datasheet Link; ComponentLink2URL: https://www.we-online.com/components/products/datasheet/691136800009; Mount: Through Hole; Operating Temperature Min: -30degC; Operating Temperature Max: 120degC; Packaging: Box; Application: Pressure Clamp; Number of Pins: 9; Number of Rows: 1; Orientation: Vertical; Lead Pitch: 10mm
footprint 691136800009
pins: 1, 2, 3, 4, 5, 6, 7, 8, 9

## 691136800010
designator J?  (value not drawn)
WR-TBL Series 1368 Vertical Cable Entry, THT, pitch 10mm, 10p; Manufacturer: Wurth Elektronik; Modularity: No; Rated Current: 16A; Working Voltage: 300V (AC); Manufacturer Part Number: 691136800010; Product Series: WR-TBL; ComponentLink1Description: Website Link; ComponentLink1URL: https://www.we-online.com; ComponentLink2Description: Datasheet Link; ComponentLink2URL: https://www.we-online.com/components/products/datasheet/691136800010; Mount: Through Hole; Operating Temperature Min: -30degC; Operating Temperature Max: 120degC; Packaging: Box; Application: Pressure Clamp; Number of Pins: 10; Number of Rows: 1; Orientation: Vertical; Lead Pitch: 10mm
footprint 691136800010
pins: 1, 2, 3, 4, 5, 6, 7, 8, 9, 10

## 691136810003
designator J?  (value not drawn)
WR-TBL Series 1368 Horizontal Cable Entry, THT, pitch 10mm, 03p; Manufacturer: Wurth Elektronik; Modularity: No; Rated Current: 16A; Working Voltage: 300V (AC); Manufacturer Part Number: 691136810003; Product Series: WR-TBL; ComponentLink1Description: Website Link; ComponentLink1URL: https://www.we-online.com; ComponentLink2Description: Datasheet Link; ComponentLink2URL: https://www.we-online.com/components/products/datasheet/691136810003; Mount: Through Hole; Operating Temperature Min: -30degC; Operating Temperature Max: 120degC; Packaging: Box; Application: Pressure Clamp; Number of Pins: 3; Number of Rows: 1; Orientation: Horizontal; Lead Pitch: 10mm
footprint 691136810003
pins: 1, 2, 3

## 691136810004
designator J?  (value not drawn)
WR-TBL Series 1368 Horizontal Cable Entry, THT, pitch 10mm, 04p; Manufacturer: Wurth Elektronik; Modularity: No; Rated Current: 16A; Working Voltage: 300V (AC); Manufacturer Part Number: 691136810004; Product Series: WR-TBL; ComponentLink1Description: Website Link; ComponentLink1URL: https://www.we-online.com; ComponentLink2Description: Datasheet Link; ComponentLink2URL: https://www.we-online.com/components/products/datasheet/691136810004; Mount: Through Hole; Operating Temperature Min: -30degC; Operating Temperature Max: 120degC; Packaging: Box; Application: Pressure Clamp; Number of Pins: 4; Number of Rows: 1; Orientation: Horizontal; Lead Pitch: 10mm
footprint 691136810004
pins: 1, 2, 3, 4

## 691136810005
designator J?  (value not drawn)
WR-TBL Series 1368 Horizontal Cable Entry, THT, pitch 10mm, 05p; Manufacturer: Wurth Elektronik; Modularity: No; Rated Current: 16A; Working Voltage: 300V (AC); Manufacturer Part Number: 691136810005; Product Series: WR-TBL; ComponentLink1Description: Website Link; ComponentLink1URL: https://www.we-online.com; ComponentLink2Description: Datasheet Link; ComponentLink2URL: https://www.we-online.com/components/products/datasheet/691136810005; Mount: Through Hole; Operating Temperature Min: -30degC; Operating Temperature Max: 120degC; Packaging: Box; Application: Pressure Clamp; Number of Pins: 5; Number of Rows: 1; Orientation: Horizontal; Lead Pitch: 10mm
footprint 691136810005
pins: 1, 2, 3, 4, 5

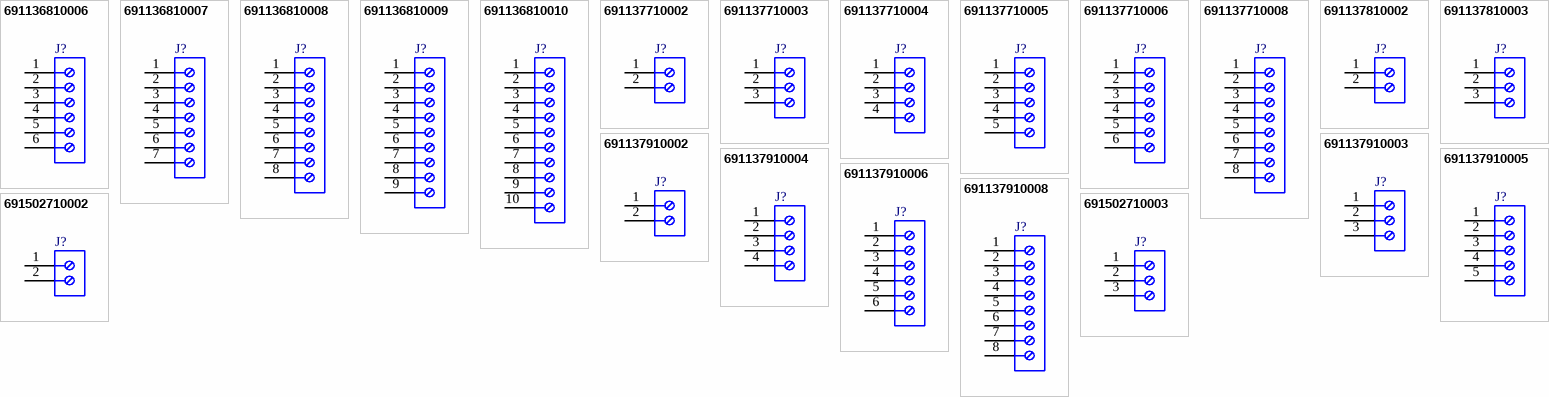
[diagram p3: symbols 691136810006 to 691502710003]

## 691136810006
designator J?  (value not drawn)
WR-TBL Series 1368 Horizontal Cable Entry, THT, pitch 10mm, 06p; Manufacturer: Wurth Elektronik; Modularity: No; Rated Current: 16A; Working Voltage: 300V (AC); Manufacturer Part Number: 691136810006; Product Series: WR-TBL; ComponentLink1Description: Website Link; ComponentLink1URL: https://www.we-online.com; ComponentLink2Description: Datasheet Link; ComponentLink2URL: https://www.we-online.com/components/products/datasheet/691136810006; Mount: Through Hole; Operating Temperature Min: -30degC; Operating Temperature Max: 120degC; Packaging: Box; Application: Pressure Clamp; Number of Pins: 6; Number of Rows: 1; Orientation: Horizontal; Lead Pitch: 10mm
footprint 691136810006
pins: 1, 2, 3, 4, 5, 6

## 691136810007
designator J?  (value not drawn)
WR-TBL Series 1368 Horizontal Cable Entry, THT, pitch 10mm, 07p; Manufacturer: Wurth Elektronik; Modularity: No; Rated Current: 16A; Working Voltage: 300V (AC); Manufacturer Part Number: 691136810007; Product Series: WR-TBL; ComponentLink1Description: Website Link; ComponentLink1URL: https://www.we-online.com; ComponentLink2Description: Datasheet Link; ComponentLink2URL: https://www.we-online.com/components/products/datasheet/691136810007; Mount: Through Hole; Operating Temperature Min: -30degC; Operating Temperature Max: 120degC; Packaging: Box; Application: Pressure Clamp; Number of Pins: 7; Number of Rows: 1; Orientation: Horizontal; Lead Pitch: 10mm
footprint 691136810007
pins: 1, 2, 3, 4, 5, 6, 7

## 691136810008
designator J?  (value not drawn)
WR-TBL Series 1368 Horizontal Cable Entry, THT, pitch 10mm, 08p; Manufacturer: Wurth Elektronik; Modularity: No; Rated Current: 16A; Working Voltage: 300V (AC); Manufacturer Part Number: 691136810008; Product Series: WR-TBL; ComponentLink1Description: Website Link; ComponentLink1URL: https://www.we-online.com; ComponentLink2Description: Datasheet Link; ComponentLink2URL: https://www.we-online.com/components/products/datasheet/691136810008; Mount: Through Hole; Operating Temperature Min: -30degC; Operating Temperature Max: 120degC; Packaging: Box; Application: Pressure Clamp; Number of Pins: 8; Number of Rows: 1; Orientation: Horizontal; Lead Pitch: 10mm
footprint 691136810008
pins: 1, 2, 3, 4, 5, 6, 7, 8

## 691136810009
designator J?  (value not drawn)
WR-TBL Series 1368 Horizontal Cable Entry, THT, pitch 10mm, 09p; Manufacturer: Wurth Elektronik; Modularity: No; Rated Current: 16A; Working Voltage: 300V (AC); Manufacturer Part Number: 691136810009; Product Series: WR-TBL; ComponentLink1Description: Website Link; ComponentLink1URL: https://www.we-online.com; ComponentLink2Description: Datasheet Link; ComponentLink2URL: https://www.we-online.com/components/products/datasheet/691136810009; Mount: Through Hole; Operating Temperature Min: -30degC; Operating Temperature Max: 120degC; Packaging: Box; Application: Pressure Clamp; Number of Pins: 9; Number of Rows: 1; Orientation: Horizontal; Lead Pitch: 10mm
footprint 691136810009
pins: 1, 2, 3, 4, 5, 6, 7, 8, 9

## 691136810010
designator J?  (value not drawn)
WR-TBL Series 1368 Horizontal Cable Entry, THT, pitch 10mm, 10p; Manufacturer: Wurth Elektronik; Modularity: No; Rated Current: 16A; Working Voltage: 300V (AC); Manufacturer Part Number: 691136810010; Product Series: WR-TBL; ComponentLink1Description: Website Link; ComponentLink1URL: https://www.we-online.com; ComponentLink2Description: Datasheet Link; ComponentLink2URL: https://www.we-online.com/components/products/datasheet/691136810010; Mount: Through Hole; Operating Temperature Min: -30degC; Operating Temperature Max: 120degC; Packaging: Box; Application: Pressure Clamp; Number of Pins: 10; Number of Rows: 1; Orientation: Horizontal; Lead Pitch: 10mm
footprint 691136810010
pins: 1, 2, 3, 4, 5, 6, 7, 8, 9, 10

## 691137710002
designator J?  (value not drawn)
WR-TBL Series 1377 Horizontal Entry, THT, pitch 5mm, 02p; Manufacturer: Wurth Elektronik; Modularity: No; Rated Current: 16A; Wire Section: 12 to 30 (AWG) 0.5 to 2.5 (mm^2); Working Voltage: 300V (AC); Manufacturer Part Number: 691137710002; Product Series: WR-TBL; ComponentLink1Description: Website Link; ComponentLink1URL: https://www.we-online.com; ComponentLink2Description: Datasheet Link; ComponentLink2URL: https://www.we-online.com/components/products/datasheet/691137710002; Mount: Through Hole; Operating Temperature Min: -30degC; Operating Temperature Max: 120degC; Packaging: Box; Application: Pressure Clamp; Number of Pins: 2; Number of Rows: 1; Orientation: Horizontal; Lead Pitch: 5mm
footprint 691137710002
pins: 1, 2

## 691137710003
designator J?  (value not drawn)
WR-TBL Series 1377 Horizontal Entry, THT, pitch 5mm, 03p; Manufacturer: Wurth Elektronik; Modularity: No; Rated Current: 16A; Wire Section: 12 to 30 (AWG) 0.5 to 2.5 (mm^2); Working Voltage: 300V (AC); Manufacturer Part Number: 691137710003; Product Series: WR-TBL; ComponentLink1Description: Website Link; ComponentLink1URL: https://www.we-online.com; ComponentLink2Description: Datasheet Link; ComponentLink2URL: https://www.we-online.com/components/products/datasheet/691137710003; Mount: Through Hole; Operating Temperature Min: -30degC; Operating Temperature Max: 120degC; Packaging: Box; Application: Pressure Clamp; Number of Pins: 3; Number of Rows: 1; Orientation: Horizontal; Lead Pitch: 5mm
footprint 691137710003
pins: 1, 2, 3

## 691137710004
designator J?  (value not drawn)
WR-TBL Series 1377 Horizontal Entry, THT, pitch 5mm, 04p; Manufacturer: Wurth Elektronik; Modularity: No; Rated Current: 16A; Wire Section: 12 to 30 (AWG) 0.5 to 2.5 (mm^2); Working Voltage: 300V (AC); Manufacturer Part Number: 691137710004; Product Series: WR-TBL; ComponentLink1Description: Website Link; ComponentLink1URL: https://www.we-online.com; ComponentLink2Description: Datasheet Link; ComponentLink2URL: https://www.we-online.com/components/products/datasheet/691137710004; Mount: Through Hole; Operating Temperature Min: -30degC; Operating Temperature Max: 120degC; Packaging: Box; Application: Pressure Clamp; Number of Pins: 4; Number of Rows: 1; Orientation: Horizontal; Lead Pitch: 5mm
footprint 691137710004
pins: 1, 2, 3, 4